# Altium schematic symbol library mod_misc.SchLib: 1 symbol
Pins are listed as number, name and electrical type; pins without a type are passive.

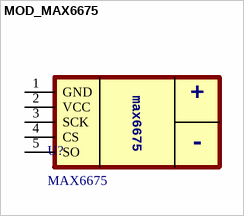
[diagram p0: symbol MOD_MAX6675]

## MOD_MAX6675
designator U?, comment MAX6675
MAX6675 module
footprint MAX6675
pins: 1 GND, 2 VCC, 3 SCK, 4 CS, 5 SO
text: max6675; +; -